# EAGLE library part MILLI-GRID-20 (library con-molex)
Milli-Grid Pin Header 2.00mm (.079") Pitch
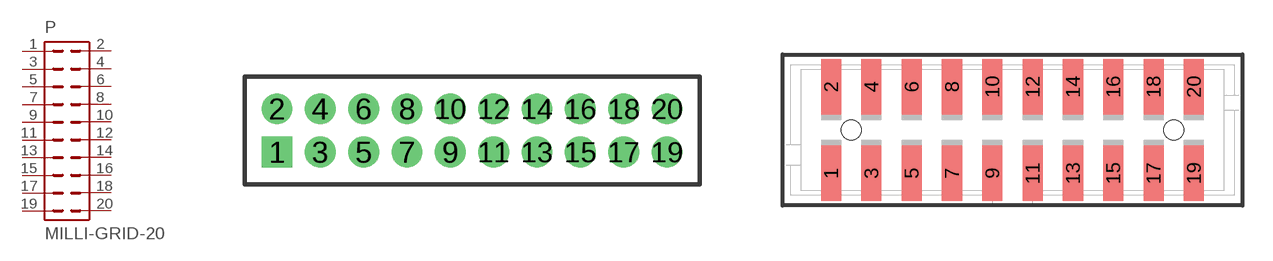
[diagram p58: symbol with the pads of 87758-20; footprints 87758-20, 87832-20]

Designator prefix P

## MILLI-GRID-20-87758  [87758-20]
1  1  pas
2  2  pas
3  3  pas
4  4  pas
5  5  pas
6  6  pas
7  7  pas
8  8  pas
9  9  pas
10  10  pas
11  11  pas
12  12  pas
13  13  pas
14  14  pas
15  15  pas
16  16  pas
17  17  pas
18  18  pas
19  19  pas
20  20  pas

## MILLI-GRID-20-87832  [87832-20]
Pads as for 87758-20

## MILLI-GRID-20-87759  [87759-20]
Pads as for 87758-20

## MILLI-GRID-20-79109  [79109-20]
Pads as for 87758-20

## MILLI-GRID-20-87340  [87340-20]
Pads as for 87758-20

## MILLI-GRID-20-79107  [79107-20]
Pads as for 87758-20

## MILLI-GRID-20-87264  [87264-20]
Pads as for 87758-20

## MILLI-GRID-20-87368  [87368-20]
Pads as for 87758-20

## Footprint 87758-20 (pad centres in mm)
PCB Pin Headers 2.00mm (.079") Pitch Milli-Grid Header, Vertical
drill 0.914 square: 1 -9,-1
drill 0.914: 2 -9,1; 3 -7,-1; 4 -7,1; 5 -5,-1; 6 -5,1; 7 -3,-1; 8 -3,1; 9 -1,-1; 10 -1,1; 11 1,-1; 12 1,1; 13 3,-1; 14 3,1; 15 5,-1; 16 5,1; 17 7,-1; 18 7,1; 19 9,-1; 20 9,1

## Footprint 87832-20 (pad centres in mm)
PCB Headers 2.00mm (.079") Pitch Milli-Grid Header, Vertical, Shrouded
smd 1 x 2.75: 1 -9,-2.15; 2 -9,2.15; 3 -7,-2.15; 4 -7,2.15; 5 -5,-2.15; 6 -5,2.15; 7 -3,-2.15; 8 -3,2.15; 9 -1,-2.15; 10 -1,2.15; 11 1,-2.15; 12 1,2.15; 13 3,-2.15; 14 3,2.15; 15 5,-2.15; 16 5,2.15; 17 7,-2.15; 18 7,2.15; 19 9,-2.15; 20 9,2.15
hole 1 at -8,0
hole 1 at 8,0

## Footprint 87759-20 (pad centres in mm)
PCB Pin Headers 2.00mm (.079") Pitch Milli-Grid Header, Vertical SMD
smd 1 x 2.75: 1 -9,-2.15; 2 -9,2.15; 3 -7,-2.15; 4 -7,2.15; 5 -5,-2.15; 6 -5,2.15; 7 -3,-2.15; 8 -3,2.15; 9 -1,-2.15; 10 -1,2.15; 11 1,-2.15; 12 1,2.15; 13 3,-2.15; 14 3,2.15; 15 5,-2.15; 16 5,2.15; 17 7,-2.15; 18 7,2.15; 19 9,-2.15; 20 9,2.15
hole 1 at -8,0
hole 1 at 8,0

## Footprint 79109-20 (pad centres in mm)
Board-to-Board Receptacal 2.00mm (.079") Pitch Milli-Grid Header, Vertical, Top/Bottom Entry Mates with: 87758, 87759, 87760, 87831, 87832, 87833
smd 1.12 x 1.83: 1 -9,-2.65; 2 -9,2.65; 3 -7,-2.65; 4 -7,2.65; 5 -5,-2.65; 6 -5,2.65; 7 -3,-2.65; 8 -3,2.65; 9 -1,-2.65; 10 -1,2.65; 11 1,-2.65; 12 1,2.65; 13 3,-2.65; 14 3,2.65; 15 5,-2.65; 16 5,2.65; 17 7,-2.65; 18 7,2.65; 19 9,-2.65; 20 9,2.65
hole 0.914 at -8,0
hole 0.914 at -9,1
hole 0.914 at -9,-1
hole 0.914 at -7,-1
hole 0.914 at -7,1
hole 0.914 at -5,-1
hole 0.914 at -5,1
hole 0.914 at 8,0
hole 0.914 at -3,1
hole 0.914 at -3,-1
hole 0.914 at -1,1
hole 0.914 at -1,-1
hole 0.914 at 1,1
hole 0.914 at 1,-1
hole 0.914 at 3,1
hole 0.914 at 3,-1
hole 0.914 at 5,-1
hole 0.914 at 5,1
hole 0.914 at 7,1
hole 0.914 at 7,-1
hole 0.914 at 9,1
hole 0.914 at 9,-1

## Footprint 87340-20 (pad centres in mm)
Board-To-Board Receptacal 2.00mm (.079") Pitch Milli-Grid Header, Vertical, Top/Bottom Entry Mates with: 87758, 87759, 87760, 87831, 87832, 87833
smd 1 x 1.75: 1 -9,-2.5; 2 -9,2.5; 3 -7,-2.5; 4 -7,2.5; 5 -5,-2.5; 6 -5,2.5; 7 -3,-2.5; 8 -3,2.5; 9 -1,2.5; 10 -1,-2.5; 11 1,-2.5; 12 1,2.5; 13 3,2.5; 14 3,-2.5; 15 5,-2.5; 16 5,2.5; 17 7,-2.5; 18 7,2.5; 19 9,-2.5; 20 9,2.5
hole 0.914 at -10,0
hole 0.914 at -9,1
hole 0.914 at -9,-1
hole 0.914 at -7,-1
hole 0.914 at -7,1
hole 0.914 at 10,0
hole 0.914 at -5,1
hole 0.914 at -5,-1
hole 0.914 at -3,1
hole 0.914 at -3,-1
hole 0.914 at -1,-1
hole 0.914 at -1,1
hole 0.914 at 1,1
hole 0.914 at 1,-1
hole 0.914 at 3,1
hole 0.914 at 3,-1
hole 0.914 at 5,1
hole 0.914 at 5,-1
hole 0.914 at 7,1
hole 0.914 at 7,-1
hole 0.914 at 9,1
hole 0.914 at 9,-1

## Footprint 79107-20 (pad centres in mm)
Board-To-Board Receptacal 2.00mm (.079") Pitch Milli-Grid Header, Vertical, Through-Hole Mates with: 87759, 87762, 87758, 87760
drill 0.914 square: 1 -9,-1
drill 0.914: 2 -9,1; 3 -7,-1; 4 -7,1; 5 -5,-1; 6 -5,1; 7 -3,-1; 8 -3,1; 9 -1,-1; 10 -1,1; 11 1,-1; 12 1,1; 13 3,-1; 14 3,1; 15 5,-1; 16 5,1; 17 7,-1; 18 7,1; 19 9,-1; 20 9,1

## Footprint 87264-20 (pad centres in mm)
Board-To-Board Receptacal 2.00mm (.079") Pitch Milli-Grid Header, Side Entry Mates with 2mm(.079") Mill-Grid Header
drill 0.914 square: 1 -9,-2.25
drill 0.914: 2 -9,2.25; 3 -7,-2.25; 4 -7,2.25; 5 -5,-2.25; 6 -5,2.25; 7 -3,-2.25; 8 -3,2.25; 9 -1,-2.25; 10 -1,2.25; 11 1,-2.25; 12 1,2.25; 13 3,-2.25; 14 3,2.25; 15 5,-2.25; 16 5,2.25; 17 7,-2.25; 18 7,2.25; 19 9,-2.25; 20 9,2.25

## Footprint 87368-20 (pad centres in mm)
Board-To-Board Receptacal 2.00mm (.079") Pitch Milli-Grid Header, Side Entry SMD Mates with 2mm(.079") Mill-Grid Header
smd 1 x 2.8: 1 -9,-3.1; 2 -9,3.1; 3 -7,-3.1; 4 -7,3.1; 5 -5,-3.1; 6 -5,3.1; 7 -3,-3.1; 8 -3,3.1; 9 -1,-3.1; 10 -1,3.1; 11 1,-3.1; 12 1,3.1; 13 3,-3.1; 14 3,3.1; 15 5,-3.1; 16 5,3.1; 17 7,-3.1; 18 7,3.1; 19 9,-3.1; 20 9,3.1
hole 0.914 at -9,0
hole 0.914 at 0,0